# Altium footprint library Display_Pcb.PcbLib: 10 footprints
Each footprint in its own frame and in the unit in brackets; x right, y up, seen from the top. Pads: shape width x height; smd on the part's side, far side on the other; paste and mask are expansions set on the pad; w line width, h text height; cw(c..) or ccw(c..) is an arc to the next point about the centre after c.
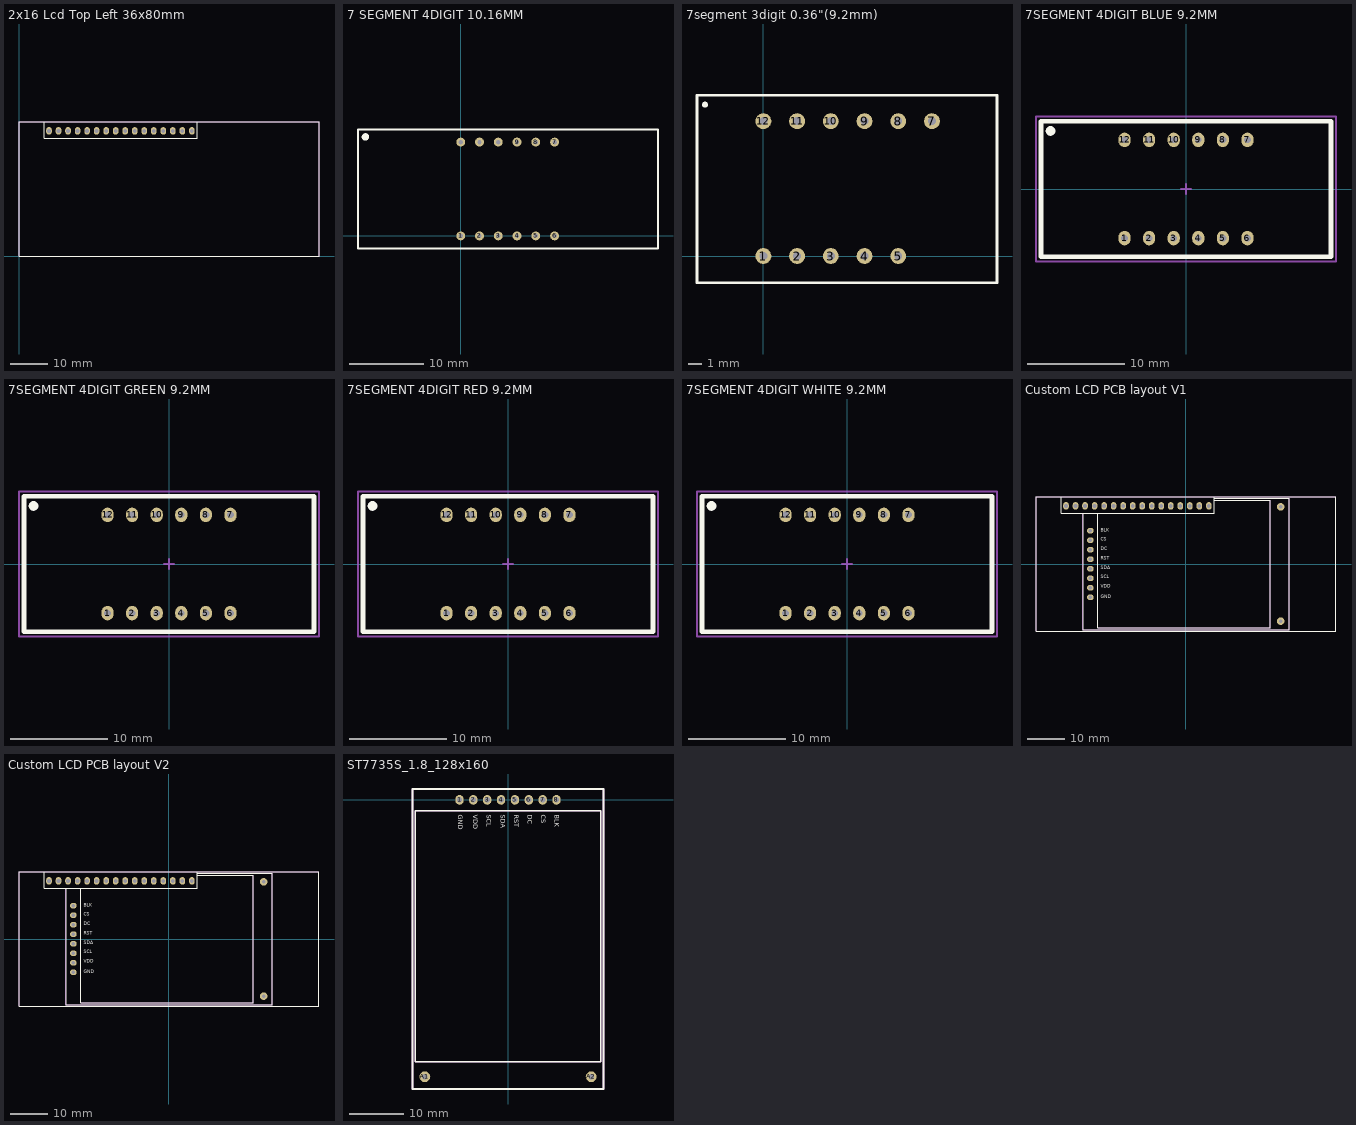
[diagram p0: the footprints below, top view; thin cyan lines are the x and y axes]

## 2x16 Lcd Top Left 36x80mm [mm]
pads (16):
  oval 1.5x2 hole 1 paste+0 mask+0.1: 1(8,33.5) 2(10.54,33.5) 3(13.08,33.5) 4(15.62,33.5) 5(18.16,33.5) 6(20.7,33.5) 7(23.24,33.5) 8(25.78,33.5) 9(28.32,33.5) 10(30.86,33.5) 11(33.4,33.5) 12(35.94,33.5) 13(38.48,33.5) 14(41.02,33.5) 15(43.56,33.5) 16(46.1,33.5)
Top Overlay:
  lines w0.2: 6.75,36 6.75,31.5 47.5,31.5 47.5,36
  lines w0.3: 0,0 0,36 80,36 80,0 0,0
Mechanical 1:
  lines w0.2: 0,0 0,36 80,36 80,0 0,0
  text "'.designator'" at 0.15,1.317 h0.5
Mechanical 15:
  lines w0.3: 0,0 0,36 80,36 80,0 0,0
3D body "16x2 Charecter Lcd V3.STEP": height 12.31, standoff -5.99, extent 0,0 80,36

## 7 SEGMENT 4DIGIT 10.16MM [mm]
pads (12):
  round 1.2 hole 0.6: 1(0,0) 2(2.54,0) 3(5.08,0) 4(7.62,0) 5(10.16,0) 6(12.7,0) 7(12.7,12.7) 8(10.16,12.7) 9(7.62,12.7) 10(5.08,12.7) 11(2.54,12.7) 12(0,12.7)
Top Overlay:
  circle w0.5: c-12.9,13.4 r0.25
  lines w0.3: -13.9,-1.7 26.7,-1.7 26.7,14.4 -13.9,14.4 -13.9,-1.7
3D body "4digit 10.2mm.step": height 7.01, standoff -3.99, extent -13.8,-1.6 26.6,14.4

## 7segment 3digit 0.36"(9.2mm) [mm]
pads (11):
  round 1.2 hole 0.6: 1(0,0) 2(2.54,0) 3(5.08,0) 4(7.62,0) 5(10.16,0) 7(12.7,10.16) 8(10.16,10.16) 9(7.62,10.16) 10(5.08,10.16) 11(2.54,10.16) 12(0,10.16)
Top Overlay:
  circle w0.254: c-4.4,11.4 r0.1
  lines w0.2: -5,-2 -5,12.1 17.6,12.1 17.6,-2 -5,-2
3D body "3 digit 9.2mm.step": height 7.22, standoff -3.04, extent -4.95,-2 17.65,12.1

## 7SEGMENT 4DIGIT BLUE 9.2MM [mm]
pads (12):
  oval 1.25x1.5 hole 0.7: 1(-6.35,-5.08) 2(-3.81,-5.08) 3(-1.27,-5.08) 4(1.27,-5.08) 5(3.81,-5.08) 6(6.35,-5.08) 7(6.35,5.08) 8(3.81,5.08) 9(1.27,5.08) 10(-1.27,5.08) 11(-3.81,5.08) 12(-6.35,5.08)
Top Overlay:
  circle w0.5: c-14,6 r0.25
  lines w0.5: -15,-7 0,-7 15,-7 15,7 0,7 -15,7 -15,-7
Mechanical 13:
  circle w0.2: c-14,6 r0.25
  lines w0.2: -15,-7 0,-7 15,-7 15,7 0,7 -15,7 -15,-7
Mechanical 15:
  lines w0.2: -0.5,0 0.5,0 ; 0,-0.5 0,0.5 ; -15.5,-7.5 0,-7.5 15.5,-7.5 15.5,7.5 0,7.5 -15.5,7.5 -15.5,-7.5
3D body "seven_segment_3641_Blue_jam.step": height 7.1, standoff -5.5, extent -15,-7 15,7

## 7SEGMENT 4DIGIT GREEN 9.2MM [mm]
pads (12):
  oval 1.25x1.5 hole 0.7: 1(-6.35,-5.08) 2(-3.81,-5.08) 3(-1.27,-5.08) 4(1.27,-5.08) 5(3.81,-5.08) 6(6.35,-5.08) 7(6.35,5.08) 8(3.81,5.08) 9(1.27,5.08) 10(-1.27,5.08) 11(-3.81,5.08) 12(-6.35,5.08)
Top Overlay:
  circle w0.5: c-14,6 r0.25
  lines w0.5: -15,-7 -15,7 0,7 15,7 15,-7 0,-7 -15,-7
Mechanical 13:
  circle w0.2: c-14,6 r0.25
  lines w0.2: -15,-7 -15,7 0,7 15,7 15,-7 0,-7 -15,-7
Mechanical 15:
  lines w0.2: -0.5,0 0.5,0 ; 0,-0.5 0,0.5 ; -15.5,-7.5 -15.5,7.5 0,7.5 15.5,7.5 15.5,-7.5 0,-7.5 -15.5,-7.5
3D body "seven_segment_3641_Green_jam.step": height 7.1, standoff -5.5, extent -15,-7 15,7

## 7SEGMENT 4DIGIT RED 9.2MM [mm]
pads (12):
  oval 1.25x1.5 hole 0.7: 1(-6.35,-5.08) 2(-3.81,-5.08) 3(-1.27,-5.08) 4(1.27,-5.08) 5(3.81,-5.08) 6(6.35,-5.08) 7(6.35,5.08) 8(3.81,5.08) 9(1.27,5.08) 10(-1.27,5.08) 11(-3.81,5.08) 12(-6.35,5.08)
Top Overlay:
  circle w0.5: c-14,6 r0.25
  lines w0.5: -15,-7 -15,7 0,7 15,7 15,-7 0,-7 -15,-7
Mechanical 13:
  circle w0.2: c-14,6 r0.25
  lines w0.2: -15,-7 -15,7 0,7 15,7 15,-7 0,-7 -15,-7
Mechanical 15:
  lines w0.2: -0.5,0 0.5,0 ; 0,-0.5 0,0.5 ; -15.5,-7.5 -15.5,7.5 0,7.5 15.5,7.5 15.5,-7.5 0,-7.5 -15.5,-7.5
3D body "seven_segment_3641_Red_jam.step": height 7.1, standoff -5.5, extent -15,-7 15,7

## 7SEGMENT 4DIGIT WHITE 9.2MM [mm]
pads (12):
  oval 1.25x1.5 hole 0.7: 1(-6.35,-5.08) 2(-3.81,-5.08) 3(-1.27,-5.08) 4(1.27,-5.08) 5(3.81,-5.08) 6(6.35,-5.08) 7(6.35,5.08) 8(3.81,5.08) 9(1.27,5.08) 10(-1.27,5.08) 11(-3.81,5.08) 12(-6.35,5.08)
Top Overlay:
  circle w0.5: c-14,6 r0.25
  lines w0.5: -15,-7 -15,7 0,7 15,7 15,-7 0,-7 -15,-7
Mechanical 13:
  circle w0.2: c-14,6 r0.25
  lines w0.2: -15,-7 -15,7 0,7 15,7 15,-7 0,-7 -15,-7
Mechanical 15:
  lines w0.2: -0.5,0 0.5,0 ; 0,-0.5 0,0.5 ; -15.5,-7.5 -15.5,7.5 0,7.5 15.5,7.5 15.5,-7.5 0,-7.5 -15.5,-7.5
3D body "seven_segment_3641_white_jam.step": height 7.1, standoff -5.5, extent -15,-7 15,7

## Custom LCD PCB layout V1 [mm]
pads (26):
  oval 1.778x1.524 hole 1: 1(-25.5,-8.89) 2(-25.5,-6.35) 3(-25.5,-3.81) 4(-25.5,-1.27) 5(-25.5,1.27) 6(-25.5,3.81) 7(-25.5,6.35) 8(-25.5,8.89)
  oval 1.5x2 hole 1 paste+0 mask+0.1: 9(-32,15.5) 10(-29.46,15.5) 11(-26.92,15.5) 12(-24.38,15.5) 13(-21.84,15.5) 14(-19.3,15.5) 15(-16.76,15.5) 16(-14.22,15.5) 17(-11.68,15.5) 18(-9.14,15.5) 19(-6.6,15.5) 20(-4.06,15.5) 21(-1.52,15.5) 22(1.02,15.5) 23(3.56,15.5) 24(6.1,15.5)
  round 2 hole 1: A1(25.25,-15.25) A2(25.25,15.25)
Top Overlay:
  lines w0.2: -33.25,18 -33.25,13.5 7.5,13.5 7.5,18
  lines w0.3: -27.5,13.5 -27.5,-17.5 27.5,-17.5 27.5,17.5 7.5,17.5 ; -23.5,13.5 -23.5,-17 22.5,-17 22.5,17 7.5,17 ; -40,-18 -40,18 40,18 40,-18 -40,-18
  text "BLK" at -22.75,8.25 h1.5
  text "CS" at -22.75,5.766 h1.5
  text "DC" at -22.75,3.266 h1.5
  text "RST" at -22.75,0.766 h1.5
  text "SDA" at -22.75,-1.734 h1.5
  text "SCL" at -22.75,-4.234 h1.5
  text "VDD" at -22.749,-6.75 h1.5
  text "GND" at -22.75,-9.484 h1.5
Mechanical 1:
  lines w0.2: -40,-18 -40,18 40,18 40,-18 -40,-18
Mechanical 13:
  lines w0.3: -27.5,13.5 -27.5,-17.5 27.5,-17.5 27.5,17.5 7.5,17.5 ; -23.5,13.5 -23.5,-17 22.5,-17 22.5,17 7.5,17
  text ".designator" at -39.5,-17.218 h1.5
Mechanical 15:
  lines w0.3: -40,-18 -40,18 40,18 40,-18 -40,-18
3D body "16x2 Charecter Lcd V3.STEP": height 12.31, standoff -5.99, extent -40,-18 40,18

## Custom LCD PCB layout V2 [mm]
pads (26):
  oval 1.778x1.524 hole 1: 1(-25.5,-8.89) 2(-25.5,-6.35) 3(-25.5,-3.81) 4(-25.5,-1.27) 5(-25.5,1.27) 6(-25.5,3.81) 7(-25.5,6.35) 8(-25.5,8.89)
  oval 1.5x2 hole 1 paste+0 mask+0.1: 9(-32,15.5) 10(-29.46,15.5) 11(-26.92,15.5) 12(-24.38,15.5) 13(-21.84,15.5) 14(-19.3,15.5) 15(-16.76,15.5) 16(-14.22,15.5) 17(-11.68,15.5) 18(-9.14,15.5) 19(-6.6,15.5) 20(-4.06,15.5) 21(-1.52,15.5) 22(1.02,15.5) 23(3.56,15.5) 24(6.1,15.5)
  round 2 hole 1: A1(25.25,-15.25) A2(25.25,15.25)
Top Overlay:
  lines w0.2: -33.25,18 -33.25,13.5 7.5,13.5 7.5,18
  lines w0.3: -27.5,13.5 -27.5,-17.5 27.5,-17.5 27.5,17.5 7.5,17.5 ; -23.5,13.5 -23.5,-17 22.5,-17 22.5,17 7.5,17 ; -40,-18 -40,18 40,18 40,-18 -40,-18
  text "BLK" at -22.75,8.25 h1.5
  text "CS" at -22.75,5.766 h1.5
  text "DC" at -22.75,3.266 h1.5
  text "RST" at -22.75,0.766 h1.5
  text "SDA" at -22.75,-1.734 h1.5
  text "SCL" at -22.75,-4.234 h1.5
  text "VDD" at -22.749,-6.75 h1.5
  text "GND" at -22.75,-9.484 h1.5
Mechanical 1:
  lines w0.2: -40,-18 -40,18 40,18 40,-18 -40,-18
Mechanical 13:
  lines w0.3: -27.5,13.5 -27.5,-17.5 27.5,-17.5 27.5,17.5 7.5,17.5 ; -23.5,13.5 -23.5,-17 22.5,-17 22.5,17 7.5,17
  text ".designator" at -39.5,-17.218 h1.5
Mechanical 15:
  lines w0.3: -40,-18 -40,18 40,18 40,-18 -40,-18
3D body "1.8_inches_128x160_RGB_TFT_LCD.stp": height 4.15, standoff -0.1, extent -27.5,-17.5 28.5,17.5

## ST7735S_1.8_128x160 [mm] "RGB TFT LCD DISPLAY MODULE"
pads (10):
  oval 1.524x1.778 hole 1: 1(-8.89,0) 2(-6.35,0) 3(-3.81,0) 4(-1.27,0) 5(1.27,0) 6(3.81,0) 7(6.35,0) 8(8.89,0)
  round 2 hole 1: A1(-15.25,-50.75) A2(15.25,-50.75)
Top Overlay:
  lines w0.3: -17.5,-53 -17.5,2 17.5,2 17.5,-53 -17.5,-53 ; -17,-48 -17,-2 17,-2 17,-48 -17,-48
  text "BLK" at 8.25,-2.75 h1.5
  text "CS" at 5.766,-2.75 h1.5
  text "DC" at 3.266,-2.75 h1.5
  text "RST" at 0.766,-2.75 h1.5
  text "SDA" at -1.734,-2.75 h1.5
  text "SCL" at -4.234,-2.75 h1.5
  text "VDD" at -6.75,-2.751 h1.5
  text "GND" at -9.484,-2.75 h1.5
Mechanical 13:
  lines w0.3: -17.5,-53 -17.5,2 17.5,2 17.5,-53 -17.5,-53 ; -17,-48 -17,-2 17,-2 17,-48 -17,-48
  text ".designator" at -17,0.282 h1.5
3D body "1.8_inches_128x160_RGB_TFT_LCD.stp": height 4.15, standoff -0.1, extent -17.425,-54.025 17.575,1.975